# Altium schematic symbol library 3221-10-0100-00.SchLib: 1 symbol
Pins are listed as number, name and electrical type; pins without a type are passive.

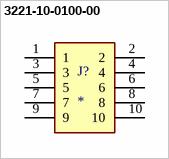
[diagram p0: symbol 3221-10-0100-00]

## 3221-10-0100-00
designator J?
Idc Box Header .050" 10pos; MF: {'manufacturer': u'CNC Tech'}; MP: 3221-10-0100-00; Value: *; Package: None; Price: None; Availability: Unavailable
footprint CNC_3221-10-0100-00
pins: 1, 2, 3, 4, 5, 6, 7, 8, 9, 10